# Altium schematic symbol library AYF530465T.SchLib: 1 symbol
Pins are listed as number, name and electrical type; pins without a type are passive.

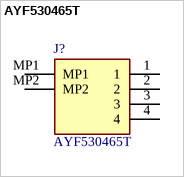
[diagram p0: symbol AYF530465T]

## AYF530465T
designator J?
FFC & FPC Connectors .5A 50VAC/DC 4 pins .5mm pitch; Manufacturer_Name: Panasonic; Geometry.Height: 2.06mm; Manufacturer_Part_Number: AYF530465T; Mouser Part Number: 769-AYF530465T; Mouser Price/Stock: https://www.mouser.co.uk/ProductDetail/Panasonic-Industrial-Devices/AYF530465T?qs=CoW5K%2FMp%2F737D1HkUvwPgw%3D%3D; Arrow Part Number: *; Arrow Price/Stock: *; Datasheet Link: https://www.mouser.com/datasheet/2/315/con_eng_y5bw-1075794.pdf
footprint AYF530465T
pins: 1, 2, 3, 4, MP1, MP2